# Altium footprint library wemos_mini_d1.PcbLib: 1 footprints
Each footprint in its own frame and in the unit in brackets; x right, y up, seen from the top. Pads: shape width x height; smd on the part's side, far side on the other; paste and mask are expansions set on the pad; w line width, h text height; cw(c..) or ccw(c..) is an arc to the next point about the centre after c.
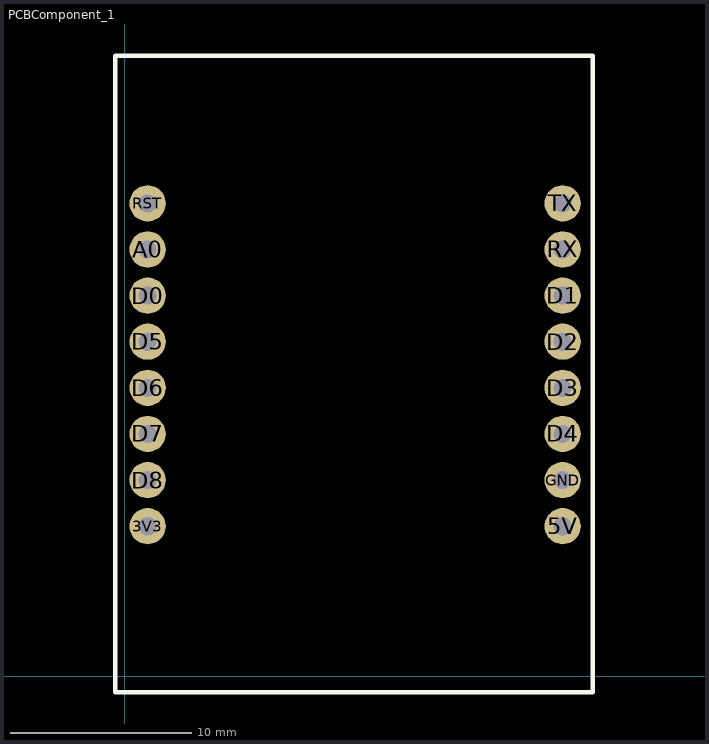
[diagram p0: the footprint, top view; thin cyan lines are the x and y axes]

## PCBComponent_1 [mm]
pads (16):
  round 2 hole 1: 3V3(1.27,8.255) 5V(24.13,8.255) A0(1.27,23.495) D0(1.27,20.955) D1(24.13,20.955) D2(24.13,18.415) D3(24.13,15.875) D4(24.13,13.335) D5(1.27,18.415) D6(1.27,15.875) D7(1.27,13.335) D8(1.27,10.795) GND(24.13,10.795) RST(1.27,26.035) RX(24.13,23.495) TX(24.13,26.035)
Top Overlay:
  lines w0.254: -0.508,-0.889 25.781,-0.889 25.781,34.163 -0.508,34.163 -0.508,-0.889
3D body "WEMOS-D1-mini.step": height 7.9, standoff -6.52, extent -0.273,-0.588 25.527,33.862